# Altium footprint library S8411-45R_1.PcbLib: 1 footprints
Each footprint in its own frame and in the unit in brackets; x right, y up, seen from the top. Pads: shape width x height; smd on the part's side, far side on the other; paste and mask are expansions set on the pad; w line width, h text height; cw(c..) or ccw(c..) is an arc to the next point about the centre after c.
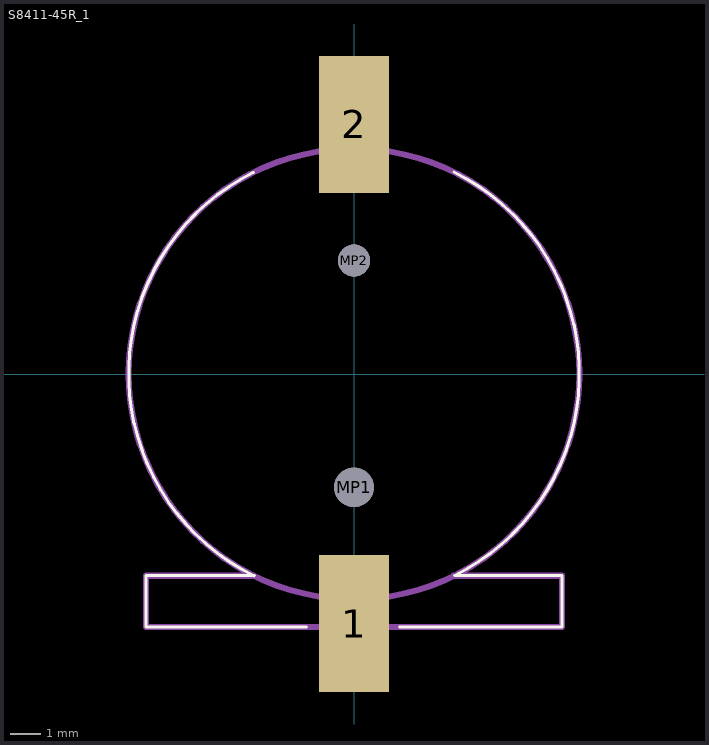
[diagram p0: the footprint, top view; thin cyan lines are the x and y axes]

## S8411-45R_1 [mm]
pads (4):
  rect 2.3x4.5 smd: 1(0,-8.2) 2(0,8.2)
  round 1.3 hole 1.3 unplated: MP1(0,-3.725)
  round 1.05 hole 1.05 unplated: MP2(0,3.725)
Top Overlay:
  lines w0.1: -3.302,6.623 ccw(c0,0) -3.29,-6.628 ; -3.27,-6.625 -6.832,-6.625 -6.832,-8.307 -1.553,-8.307 ; 1.49,-8.307 6.832,-8.307 6.832,-6.625 3.296,-6.625 ; 3.29,6.628 cw(c0,0) 3.302,-6.623
Mechanical 15:
  circle w0.2: c0,0 r7.4
  lines w0.2: -3.297,-6.625 -6.832,-6.625 -6.832,-8.307 6.832,-8.307 6.832,-6.625 3.27,-6.625